# Altium integrated library PJ-037AH.IntLib: 1 symbol
Pins are listed as number, name and electrical type; pins without a type are passive.

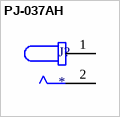
[diagram p0: symbol PJ-037AH]

## PJ-037AH
designator J?
2.0 x 6.5 mm, 5.0 A, Horizontal, Through Hole, Dc Power Jack Connector; MP: PJ-037AH; Package: None; Price: None; Value: *; Availability: Unavailable
footprint CUI_PJ-037AH
pins: 1, 2